# EAGLE library part 615016338621 (library EagleLibrary_Wuerth_Elektronik_eiCan_Communication_Connectors_v6_20150113)
WR-MJ Horizontal Shielded with LED 8P8C Modular Jack Tab Up + Dual USB Stacked, 8 Pins=>Code : Con_I-O_MJ-H_Shielded_Up_615016338621 <http://katalog.we-online.de/media/images/eican/Con_I-O_MJ-H_Shielded_Up_615016338621_pf2.jpg> Details see: http://katalog.we-online.de/en/em/615_016_338_621 Created 2014-07-10, Karrer Zheng 2014 (C) Würth Elektronik
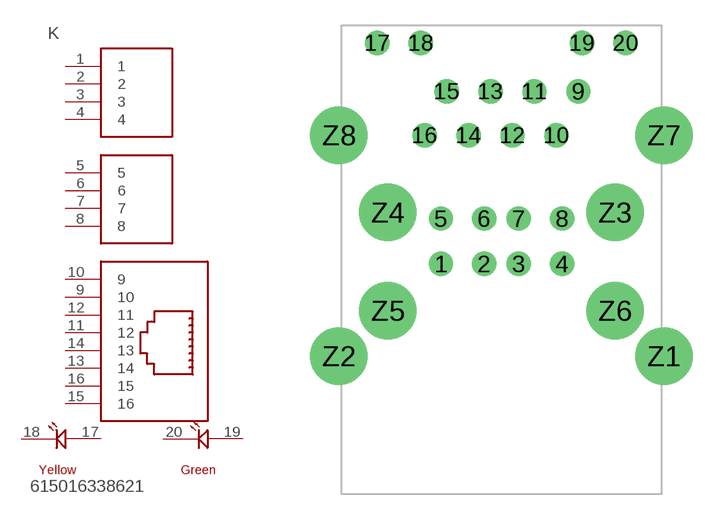
[diagram p128: symbol with the pads of 615016338621; footprint 615016338621]

Designator prefix K

## 615016338621  [615016338621]
1  1  pas
2  2  pas
3  3  pas
4  4  pas
5  5  pas
6  6  pas
7  7  pas
8  8  pas
9  10  pas
10  9  pas
11  12  pas
12  11  pas
13  14  pas
14  13  pas
15  16  pas
16  15  pas
17  17  pas
18  18  pas
19  19  pas
20  20  pas

## Footprint 615016338621 (pad centres in mm)
WR-MJ Horizontal Shielded with LED 8P8C Modular Jack Tab Up + Dual USB Stacked, 8 Pins
drill 0.9: 1 -3.5,-8.71; 2 -1,-8.71; 3 1,-8.71; 4 3.51,-8.71; 5 -3.5,-6.09; 6 -1,-6.09; 7 1,-6.09; 8 3.51,-6.09; 9 4.445,1.27; 10 3.175,-1.27; 11 1.905,1.27; 12 0.635,-1.27; 13 -0.635,1.27; 14 -1.905,-1.27; 15 -3.175,1.27; 16 -4.445,-1.27; 17 -7.175,4.07; 18 -4.66,4.07; 19 4.66,4.07; 20 7.175,4.07
drill 2.3: Z1 9.4,-14.05; Z2 -9.4,-14.05; Z3 6.57,-5.74; Z4 -6.57,-5.74; Z5 -6.57,-11.42; Z6 6.57,-11.42; Z7 9.4,-1.27; Z8 -9.4,-1.27